# Altium footprint library Power_Lib.PcbLib: 6 footprints
Each footprint in its own frame and in the unit in brackets; x right, y up, seen from the top. Pads: shape width x height; smd on the part's side, far side on the other; paste and mask are expansions set on the pad; w line width, h text height; cw(c..) or ccw(c..) is an arc to the next point about the centre after c.
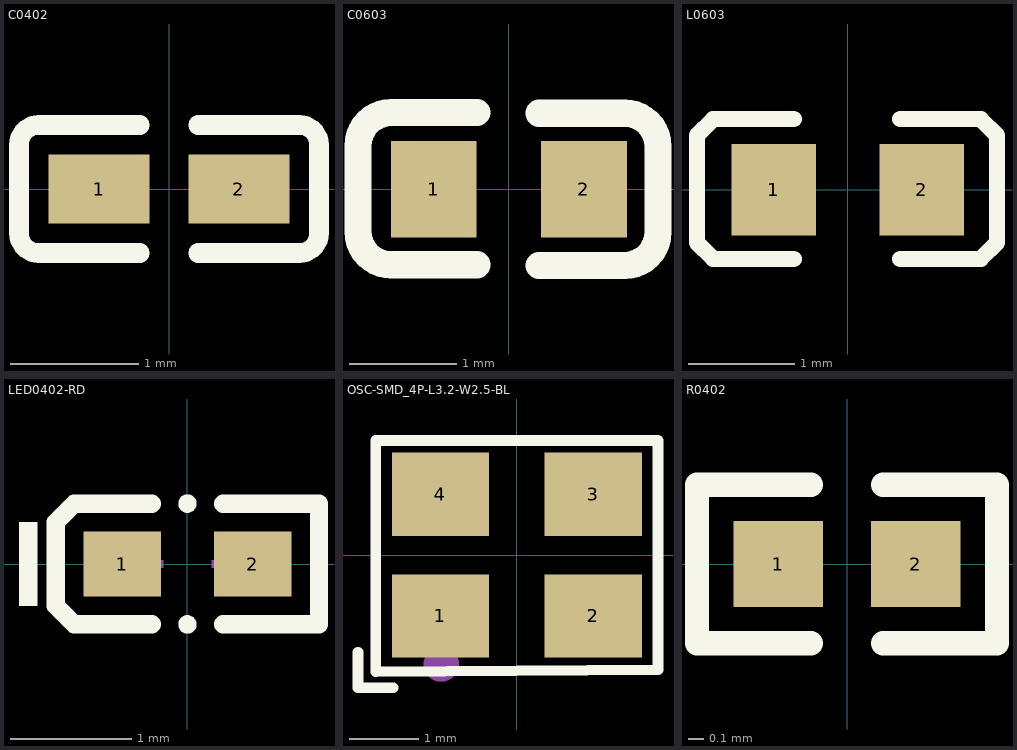
[diagram p0: the footprints below, top view; thin cyan lines are the x and y axes]

## C0402 [mm]
pads (2):
  rect 0.79x0.54 smd paste-100 mask+0.051: 1(-0.545,0) 2(0.545,0)
Top Overlay:
  lines w0.152: -0.226,-0.499 -1.016,-0.499 cw(c-1.016,-0.346) -1.169,-0.346 -1.169,0.346 cw(c-1.016,0.346) -1.016,0.499 -0.226,0.499 ; 0.226,-0.499 1.016,-0.499 ccw(c1.016,-0.346) 1.169,-0.346 1.169,0.346 ccw(c1.016,0.346) 1.016,0.499 0.226,0.499
Top Paste:
  region: 0.78,0.225 0.78,-0.225 0.73,-0.275 0.25,-0.275 0.18,-0.225 0.18,0.225 0.25,0.275 0.73,0.275
  region: -0.18,0.225 -0.18,-0.225 -0.25,-0.275 -0.73,-0.275 -0.78,-0.225 -0.78,0.225 -0.73,0.275 -0.25,0.275
3D body "C0402_020.step": height 0.2, standoff 0, extent -0.5,-0.25 0.5,0.25

## C0603 [mm]
pads (2):
  rect 0.8x0.9 smd paste+0 mask+0.051: 1(-0.7,0) 2(0.7,0)
Top Overlay:
  lines w0.254: -0.296,-0.704 -1.096,-0.704 cw(c-1.096,-0.394) -1.406,-0.394 -1.405,0.406 cw(c-1.096,0.406) -1.096,0.715 -0.296,0.715 ; 0.28,-0.71 1.08,-0.71 ccw(c1.08,-0.4) 1.39,-0.4 1.39,0.4 ccw(c1.08,0.4) 1.08,0.71 0.28,0.71
3D body "C0603_090.step": height 0.9, standoff 0, extent -0.8,-0.4 0.8,0.4

## L0603 [mm]
pads (2):
  rect 0.8x0.864 smd paste-100 mask+0.051: 1(-0.7,0) 2(0.7,0)
Top Overlay:
  lines w0.152: -0.51,-0.651 -1.272,-0.651 -1.424,-0.499 -1.424,0.517 -1.272,0.67 -0.51,0.67 ; 0.496,-0.651 1.258,-0.651 1.411,-0.499 1.411,0.517 1.258,0.67 0.496,0.67
Top Paste:
  region: 0.264,0.154 0.264,-0.122 0.538,-0.416 1.042,-0.416 1.106,-0.352 1.106,0.384 1.042,0.448 0.538,0.448
  region: -0.252,0.143 -0.252,-0.134 -0.526,-0.427 -1.029,-0.427 -1.093,-0.363 -1.093,0.373 -1.029,0.437 -0.526,0.437

## LED0402-RD [mm]
pads (2):
  rect 0.636x0.54 smd paste-100 mask+0.051: 1(-0.538,0) 2(0.538,0)
Top Overlay:
  circle w0.076: c0,-0.499 r0.038
  circle w0.076: c0,0.499 r0.038
  region: -1.237,-0.346 -1.237,0.346 -1.39,0.346 -1.39,-0.346
  lines w0.152: -0.296,-0.499 -0.933,-0.499 -1.085,-0.346 -1.085,0.346 -0.933,0.499 -0.296,0.499 ; 0.296,-0.499 1.085,-0.499 1.085,0.499 0.296,0.499
Top Paste:
  region: 0.198,-0.23 0.198,0.23 0.238,0.27 0.816,0.27 0.856,0.23 0.856,-0.23 0.816,-0.27 0.238,-0.27
  region: -0.198,-0.23 -0.198,0.23 -0.238,0.27 -0.816,0.27 -0.856,0.23 -0.856,-0.23 -0.816,-0.27 -0.238,-0.27
Mechanical 15:
  region: -0.44,-0.03 -0.44,0.03 -0.2,0.03 -0.2,-0.03
  region: 0.44,-0.03 0.44,0.03 0.2,0.03 0.2,-0.03
  region: 0.35,-0.2 0.35,0.2 0.29,0.2 0.29,-0.2

## OSC-SMD_4P-L3.2-W2.5-BL [mm]
pads (4):
  rect 1.4x1.2 smd paste+0 mask+0.051: 1(-1.1,-0.875) 2(1.1,-0.875) 3(1.1,0.875) 4(-1.1,0.875)
Top Overlay:
  lines w0.152: -2.286,-1.397 -2.286,-1.905 -1.778,-1.905 ; -2.029,-1.679 -2.029,1.651 2.032,1.651 2.032,0 2.032,-1.651 -2.029,-1.679
Mechanical 15:
  circle w0.254: c-1.088,-1.567 r0.127
  region: -1.486,-0.428 -1.45,-0.428 -1.45,-1.004 -1.486,-1.004
  region: -1.522,-0.428 -1.486,-0.428 -1.486,-1.004 -1.522,-1.004
  region: -1.558,-0.428 -1.522,-0.428 -1.522,-1.004 -1.558,-1.004
  region: -1.594,-0.464 -1.558,-0.464 -1.558,-1.004 -1.594,-1.004
  region: -1.63,-0.464 -1.594,-0.464 -1.594,-0.572 -1.63,-0.572
  region: -1.666,-0.5 -1.63,-0.5 -1.63,-0.608 -1.666,-0.608
  region: -1.702,-0.536 -1.666,-0.536 -1.666,-0.608 -1.702,-0.608
  region: -1.738,-0.536 -1.702,-0.536 -1.702,-0.608 -1.738,-0.608
3D body "ATX-11.STEP": height 1.2, standoff 0, extent -1.6,-1.25 1.6,1.25

## R0402 [mm]
pads (2):
  rect 0.566x0.54 smd paste-100 mask+0.051: 1(-0.433,0) 2(0.433,0)
Top Overlay:
  lines w0.152: -0.226,-0.499 -0.944,-0.499 -0.944,0.499 -0.226,0.499 ; 0.226,-0.499 0.944,-0.499 0.944,0.499 0.226,0.499
Top Paste:
  region: -0.135,-0.23 -0.135,0.23 -0.175,0.27 -0.676,0.27 -0.716,0.23 -0.716,-0.23 -0.676,-0.27 -0.175,-0.27
  region: 0.135,-0.23 0.135,0.23 0.175,0.27 0.676,0.27 0.716,0.23 0.716,-0.23 0.676,-0.27 0.175,-0.27
3D body "R0402 AC0402.step": height 0.32, standoff 0, extent -0.5,-0.25 0.5,0.25